# Altium footprint library WE-XHMI.PcbLib: 17 footprints (part 2 of 2)
Each footprint in its own frame and in the unit in brackets; x right, y up, seen from the top. Pads: shape width x height; smd on the part's side, far side on the other; paste and mask are expansions set on the pad; w line width, h text height; cw(c..) or ccw(c..) is an arc to the next point about the centre after c.
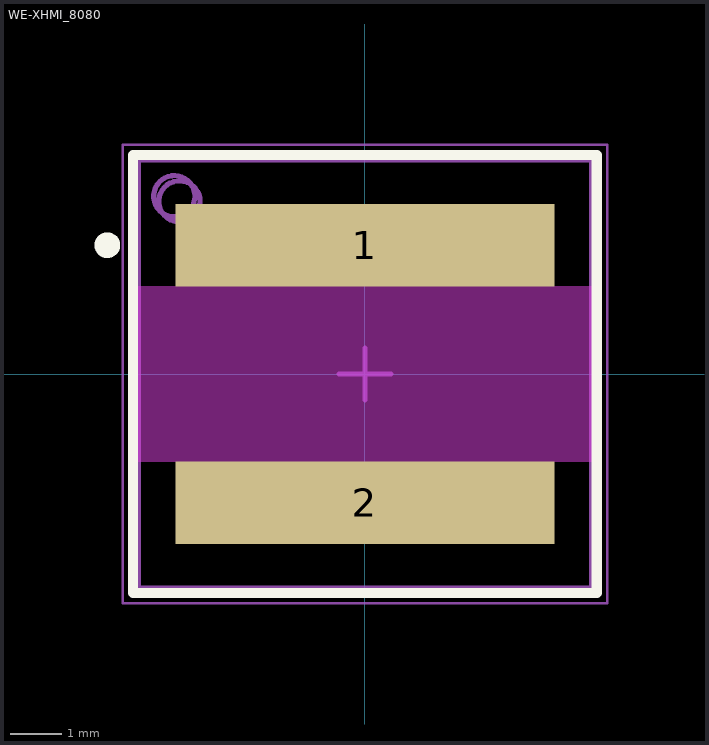
[diagram p1: the footprint, top view; thin cyan lines are the x and y axes]

## WE-XHMI_8080 [mm] "SMT Power Inductor, 2-Leads, body 8.8x8.3mm"
height 7.8
pads (2):
  rect 7.35x1.6 smd: 1(0,2.5) 2(0,-2.5)
Top Layer keep-out:
  region: -4.4,1.7 4.4,1.7 4.4,-1.7 -4.4,-1.7
Top Overlay:
  circle w0.25: c-5,2.5 r0.125
  lines w0.2: -4.5,-4.25 4.5,-4.25 4.5,4.25 -4.5,4.25 -4.5,-4.25
Top Assembly:
  circle w0.1: c-3.7,3.45 r0.4
  lines w0.1: -4.5,-4.25 -4.5,4.25 4.5,4.25 4.5,-4.25 -4.5,-4.25
Top Designator:
  text ".Designator" at -3.647,-0.357 h1
Top 3D Body:
  circle w0.1: c-3.6,3.35 r0.4
  lines w0.1: -4.4,-4.15 4.4,-4.15 4.4,4.15 -4.4,4.15 -4.4,-4.15
Top Courtyard:
  lines w0.05: -4.7,-4.45 4.7,-4.45 4.7,4.45 -4.7,4.45 -4.7,-4.45
Top Component Center:
  lines w0.1: -0.5,0 0.5,0 ; 0,-0.5 0,0.5
3D body "74439358xxx.stp": height 7.8, standoff 0, extent -4.4,-4.15 4.4,4.15